# Altium schematic symbol library SCH - DRIVER - LED - TI TPS61002_DGS_10.SchLib: 1 symbol
Pins are listed as number, name and electrical type; pins without a type are passive.

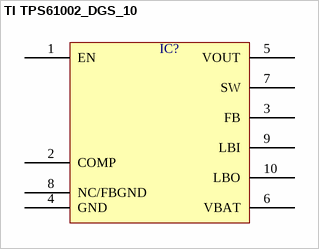
[diagram p0: symbol TI TPS61002_DGS_10]

## TI TPS61002_DGS_10
designator IC?  (value not drawn)
pins: 1 EN, 2 COMP, 3 FB, 4 GND, 5 VOUT, 6 VBAT, 7 SW, 8 NC/FBGND, 9 LBI, 10 LBO